# Altium schematic symbol library Switch.SchLib: 6 symbols
Pins are listed as number, name and electrical type; pins without a type are passive.

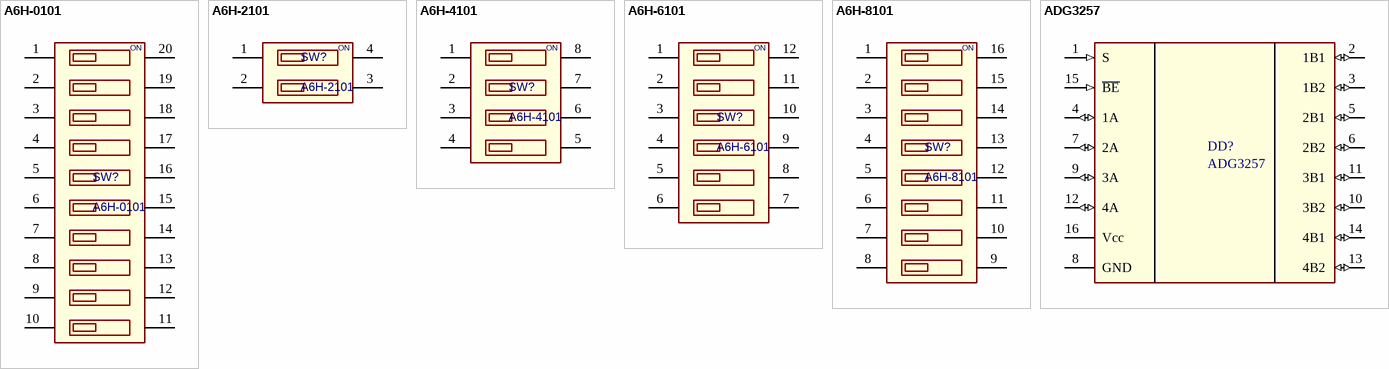
[diagram p0: symbols A6H-0101 to ADG3257]

## A6H-0101
designator SW?
footprint SWITCH (OMRON A6H 10POLE)
pins: 1, 2, 3, 4, 5, 6, 7, 8, 9, 10, 11, 12, 13, 14, 15, 16, 17, 18, 19, 20
text: ON

## A6H-2101
designator SW?
footprint SWITCH (OMRON A6H 2POLE)
pins: 1, 2, 3, 4
text: ON

## A6H-4101
designator SW?
footprint SWITCH (OMRON A6H 4POLE)
pins: 1, 2, 3, 4, 5, 6, 7, 8
text: ON

## A6H-6101
designator SW?
footprint SWITCH (OMRON A6H 6POLE)
pins: 1, 2, 3, 4, 5, 6, 7, 8, 9, 10, 11, 12
text: ON

## A6H-8101
designator SW?
footprint SWITCH (OMRON A6H 8POLE)
pins: 1, 2, 3, 4, 5, 6, 7, 8, 9, 10, 11, 12, 13, 14, 15, 16
text: ON

## ADG3257
designator DD?
footprint SSOP16 (16-Lead Shrink Small Outline Package [QSOP]  (RQ-16))
pins: 1 S (in), 2 1B1 (io), 3 1B2 (io), 4 1A (io), 5 2B1 (io), 6 2B2 (io), 7 2A (io), 8 GND (power), 9 3A (io), 10 3B2 (io), 11 3B1 (io), 12 4A (io), 13 4B2 (io), 14 4B1 (io), 15 ~{BE} (in), 16 Vcc (power)